# EAGLE library part BH2228FV-E2 (library xbox-one-adapter-parts)
6 Channel, 8-bit DAC The BH2227FV and BH2228FV ICs are 8bit R-2R-type D/A converters with 4 and 6 channels, respectively. Optimized circuitry allows two output voltages to be supplied (3V/5V). Furthermore, the built-in RESET function ensures that the output voltage at allchannels is LOW during power up. A broad power supply voltage range is available (2.7V to 5.5V), providing design flexibility.
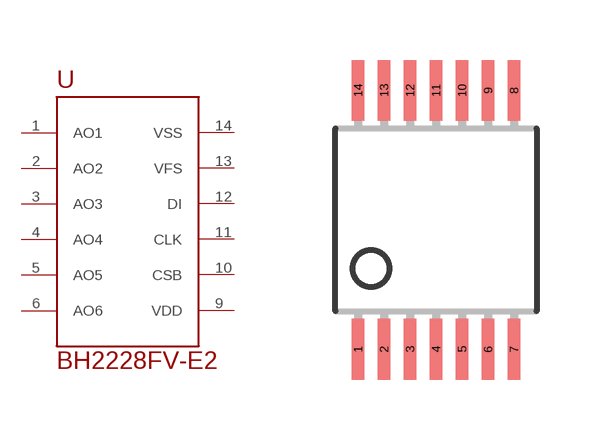
[diagram p0: symbol with the pads of TSSOP14; footprint TSSOP14]

Designator prefix -

## BH2228FV-E2  [TSSOP14]
1  AO1  out
2  AO2  out
3  AO3  out
4  AO4  out
5  AO5  out
6  AO6  out
9  VDD  pwr
10  CSB  in
11  CLK  in
12  DI  in
13  VFS  pwr
14  VSS  pwr

## Footprint TSSOP14 (pad centres in mm)
Thin Shrink Small Outline Plastic 14
smd 0.305 x 1.524: 1 -1.95,-3.235; 2 -1.3,-3.235; 3 -0.65,-3.235; 4 0,-3.235; 5 0.65,-3.235; 6 1.3,-3.235; 7 1.95,-3.235; 8 1.95,3.235; 9 1.3,3.235; 10 0.65,3.235; 11 0,3.235; 12 -0.65,3.235; 13 -1.3,3.235; 14 -1.95,3.235